# Altium footprint library QFN1279600-8N.PcbLib: 3 footprints
Each footprint in its own frame and in the unit in brackets; x right, y up, seen from the top. Pads: shape width x height; smd on the part's side, far side on the other; paste and mask are expansions set on the pad; w line width, h text height; cw(c..) or ccw(c..) is an arc to the next point about the centre after c.
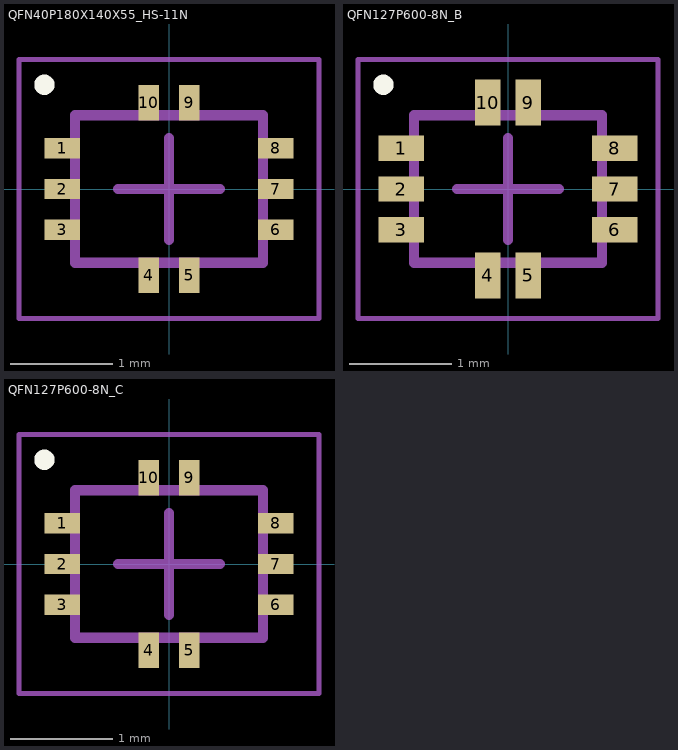
[diagram p0: the footprints below, top view; thin cyan lines are the x and y axes]

## QFN40P180X140X55_HS-11N [mm] "QFN, 10-Leads, Body 1,80x1,40mm, Pitch 0,40mm, Thermal Pad 0,60x1,00mm, IPC Medium Density"
height 0.55
pads (10):
  rect 0.35x0.2 smd: 1(-1.05,0.4) 2(-1.05,0) 3(-1.05,-0.4) 6(1.05,-0.4) 7(1.05,0) 8(1.05,0.4)
  rect 0.2x0.35 smd: 4(-0.2,-0.85) 5(0.2,-0.85) 9(0.2,0.85) 10(-0.2,0.85)
Top Overlay:
  circle w0.1: c-1.225,1.025 r0.05
Mechanical 13:
  lines w0.1: -0.925,-0.725 -0.925,0.725 0.925,0.725 0.925,-0.725 -0.925,-0.725
Mechanical 15:
  lines w0.05: -1.475,-1.275 -1.475,1.275 1.475,1.275 1.475,-1.275 -1.475,-1.275
  lines w0.1: -0.5,0 0.5,0 ; 0,-0.5 0,0.5
3D body: height 0.55, standoff 0.05, extent -0.925,-0.725 0.925,0.725

## QFN127P600-8N_B [mm]
height 0.55
pads (10):
  rect 0.45x0.25 smd: 1(-1.05,0.4) 2(-1.05,0) 3(-1.05,-0.4) 6(1.05,-0.4) 7(1.05,0) 8(1.05,0.4)
  rect 0.25x0.45 smd: 4(-0.2,-0.85) 5(0.2,-0.85) 9(0.2,0.85) 10(-0.2,0.85)
Top Overlay:
  circle w0.1: c-1.225,1.025 r0.05
Mechanical 13:
  lines w0.1: -0.925,-0.725 -0.925,0.725 0.925,0.725 0.925,-0.725 -0.925,-0.725
Mechanical 15:
  lines w0.05: -1.475,-1.275 -1.475,1.275 1.475,1.275 1.475,-1.275 -1.475,-1.275
  lines w0.1: -0.5,0 0.5,0 ; 0,-0.5 0,0.5
3D body: height 0.55, standoff 0.05, extent -0.925,-0.725 0.925,0.725

## QFN127P600-8N_C [mm]
height 0.55
pads (10):
  rect 0.35x0.2 smd: 1(-1.05,0.4) 2(-1.05,0) 3(-1.05,-0.4) 6(1.05,-0.4) 7(1.05,0) 8(1.05,0.4)
  rect 0.2x0.35 smd: 4(-0.2,-0.85) 5(0.2,-0.85) 9(0.2,0.85) 10(-0.2,0.85)
Top Overlay:
  circle w0.1: c-1.225,1.025 r0.05
Mechanical 13:
  lines w0.1: -0.925,-0.725 -0.925,0.725 0.925,0.725 0.925,-0.725 -0.925,-0.725
Mechanical 15:
  lines w0.05: -1.475,-1.275 -1.475,1.275 1.475,1.275 1.475,-1.275 -1.475,-1.275
  lines w0.1: -0.5,0 0.5,0 ; 0,-0.5 0,0.5
3D body: height 0.55, standoff 0.05, extent -0.925,-0.725 0.925,0.725